# EAGLE library part 693010010601 (library USB_c_conn)
WR-CRDSIM CARD CONNECTOR HEADER 6PINS=>Code : Con_I-O_COM_CRD_SIM_Mini_693010010601 <http://katalog.we-online.de/media/images/eican/Con_I-O_COM_CRD_SIM_Mini_693010010601_pf2.jpg> Details see: http://katalog.we-online.de/en/em/CRD_MINI_SIM_HEADER_6_PINS/693010010601 Created 2014-07-09, Karrer Zheng 2014 (C) Würth Elektronik
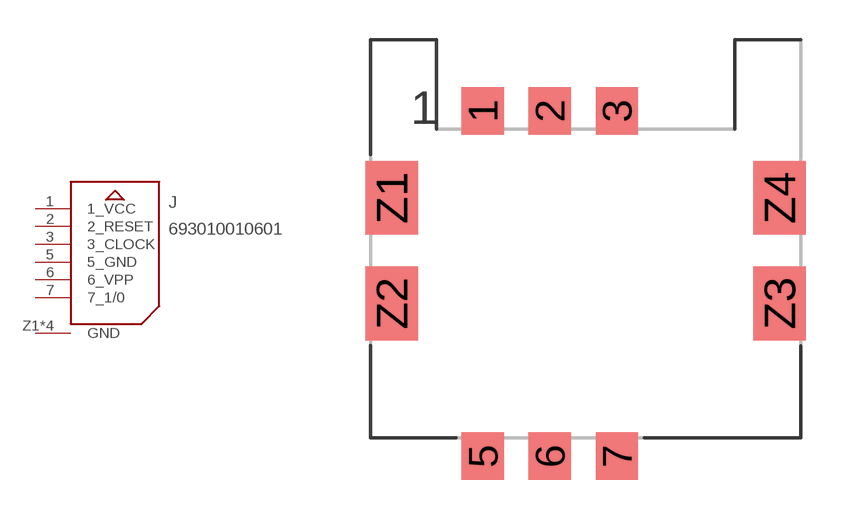
[diagram p86: symbol with the pads of 693010010601; footprint 693010010601]

Designator prefix J

## 693010010601  [693010010601]
1  1_VCC
2  2_RESET
3  3_CLOCK
5  5_GND
6  6_VPP
7  7_1/0
Z1  GND
Z2  GND
Z3  GND
Z4  GND

## Footprint 693010010601 (pad centres in mm)
WR-CRD SIM CARD CONNECTOR HEADER 6PINS
smd 1.6 x 1.8: 1 -3.9,5.3; 2 -1.36,5.3; 3 1.18,5.3; 5 -3.9,-7.8; 6 -1.36,-7.8; 7 1.18,-7.8
smd 2 x 2.8: Z1 -7.35,2; Z2 -7.35,-2; Z3 7.35,-2; Z4 7.35,2